# Altium footprint library BD00C0AWHFP-CTR.PcbLib: 3 footprints
Each footprint in its own frame and in the unit in brackets; x right, y up, seen from the top. Pads: shape width x height; smd on the part's side, far side on the other; paste and mask are expansions set on the pad; w line width, h text height; cw(c..) or ccw(c..) is an arc to the next point about the centre after c.
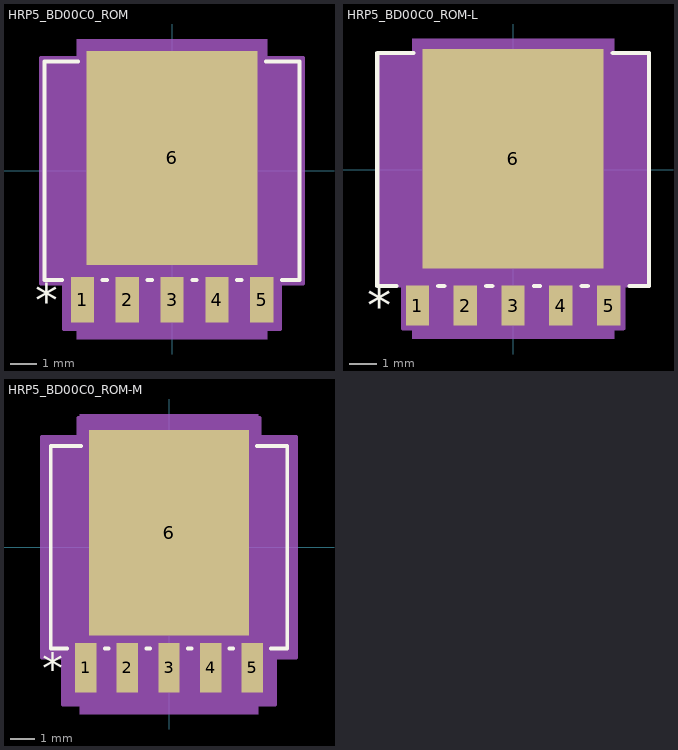
[diagram p0: the footprints below, top view; thin cyan lines are the x and y axes]

## HRP5_BD00C0_ROM [mil]
pads (6):
  rect 34.97x68.56 smd paste+0 mask+0: 1(-135.43,-194.5) 2(-67.72,-194.5) 3(0,-194.5) 4(67.72,-194.5) 5(135.43,-194.5)
  rect 258x323 smd paste+0 mask+0: 6(0,19.5)
Top Overlay:
  lines w6: -166.02,-165 -192.5,-165 -192.5,165 -142.1,165 ; -104.85,-165 -98.3,-165 ; -37.13,-165 -30.58,-165 ; 30.58,-165 37.13,-165 ; 98.3,-165 104.85,-165 ; 142.1,165 192.5,165 192.5,-165 166.02,-165
  text "*" at -206.79,-219.5 h50
Mechanical 5:
  region: -144,199 144,199 144,-253.78 -144,-253.78
Mechanical 13:
  lines w1: -187.5,-160 187.5,-160 187.5,160 -187.5,160 -187.5,-160 ; -151.93,-215 -151.93,-160 -118.93,-160 -118.93,-215 -151.93,-215 ; -84.22,-215 -84.22,-160 -51.22,-160 -51.22,-215 -84.22,-215 ; -16.5,-215 -16.5,-160 16.5,-160 16.5,-215 -16.5,-215 ; 51.22,-215 51.22,-160 84.22,-160 84.22,-215 51.22,-215 ; 118.93,-215 118.93,-160 151.93,-160 151.93,-215 118.93,-215
  text "*" at -147.93,-175 h50
Mechanical 15:
  region: -197.5,-170 -197.5,170 -138,170 -138,191 138,191 138,170 197.5,170 197.5,-170 162.92,-170 162.92,-238.78 -162.92,-238.78 -162.92,-170
  lines w6: -197.5,-170 -197.5,170 -138,170 -138,191 138,191 138,170 197.5,170 197.5,-170 162.92,-170 162.92,-238.78 -162.92,-238.78 -162.92,-170 -197.5,-170
3D body "HRP5_BD00C0_ROM.step": height 79.09, standoff -2.01, extent -187.48,-215 187.48,160

## HRP5_BD00C0_ROM-L [mil]
pads (6):
  rect 33x56.75 smd paste+0 mask+0: 1(-135.43,-192.53) 2(-67.72,-192.53) 3(0,-192.53) 4(67.72,-192.53) 5(135.43,-192.53)
  rect 256x311 smd paste+0 mask+0: 6(0,15.5)
Top Overlay:
  lines w6: -165.03,-165 -192.5,-165 -192.5,165 -141.1,165 ; -105.83,-165 -97.32,-165 ; -38.12,-165 -29.6,-165 ; 29.6,-165 38.12,-165 ; 97.32,-165 105.83,-165 ; 141.1,165 192.5,165 192.5,-165 165.03,-165
  text "*" at -206.79,-217.53 h50
Mechanical 5:
  region: -143,185 143,185 143,-239.91 -143,-239.91
Mechanical 13:
  lines w1: -187.5,-160 187.5,-160 187.5,160 -187.5,160 -187.5,-160 ; -151.93,-215 -151.93,-160 -118.93,-160 -118.93,-215 -151.93,-215 ; -84.22,-215 -84.22,-160 -51.22,-160 -51.22,-215 -84.22,-215 ; -16.5,-215 -16.5,-160 16.5,-160 16.5,-215 -16.5,-215 ; 51.22,-215 51.22,-160 84.22,-160 84.22,-215 51.22,-215 ; 118.93,-215 118.93,-160 151.93,-160 151.93,-215 118.93,-215
  text "*" at -147.93,-175 h50
Mechanical 15:
  region: -191.5,-164 -191.5,164 -132,164 -132,175 132,175 132,164 191.5,164 191.5,-164 155.93,-164 155.93,-224.91 -155.93,-224.91 -155.93,-164
  lines w6: -191.5,-164 -191.5,164 -132,164 -132,175 132,175 132,164 191.5,164 191.5,-164 155.93,-164 155.93,-224.91 -155.93,-224.91 -155.93,-164 -191.5,-164
3D body "HRP5_BD00C0_ROM.step": height 79.09, standoff -2.01, extent -187.48,-215 187.48,160

## HRP5_BD00C0_ROM-M [mm]
pads (6):
  rect 0.888x2.041 smd paste+0 mask+0: 1(-3.44,-4.99) 2(-1.72,-4.99) 3(0,-4.99) 4(1.72,-4.99) 5(3.44,-4.99)
  rect 6.604x8.509 smd paste+0 mask+0: 6(0,0.597)
Top Overlay:
  lines w0.152: -4.217,-4.191 -4.889,-4.191 -4.889,4.191 -3.635,4.191 ; -2.663,-4.191 -2.497,-4.191 ; -0.943,-4.191 -0.777,-4.191 ; 0.777,-4.191 0.943,-4.191 ; 2.497,-4.191 2.663,-4.191 ; 3.635,4.191 4.889,4.191 4.889,-4.191 4.217,-4.191
  text "*" at -5.253,-5.625 h1.27
Mechanical 5:
  region: -3.683,5.512 3.683,5.512 3.683,-6.9 -3.683,-6.9
Mechanical 13:
  lines w0.025: -4.763,-4.064 4.763,-4.064 4.763,4.064 -4.763,4.064 -4.763,-4.064 ; -3.859,-5.461 -3.859,-4.064 -3.021,-4.064 -3.021,-5.461 -3.859,-5.461 ; -2.139,-5.461 -2.139,-4.064 -1.301,-4.064 -1.301,-5.461 -2.139,-5.461 ; -0.419,-5.461 -0.419,-4.064 0.419,-4.064 0.419,-5.461 -0.419,-5.461 ; 1.301,-5.461 1.301,-4.064 2.139,-4.064 2.139,-5.461 1.301,-5.461 ; 3.021,-5.461 3.021,-4.064 3.859,-4.064 3.859,-5.461 3.021,-5.461
  text "*" at -3.758,-4.445 h1.27
Mechanical 15:
  region: -5.271,-4.572 -5.271,4.572 -3.759,4.572 -3.759,5.359 3.759,5.359 3.759,4.572 5.271,4.572 5.271,-4.572 4.392,-4.572 4.392,-6.519 -4.392,-6.519 -4.392,-4.572
  lines w0.152: -5.271,-4.572 -5.271,4.572 -3.759,4.572 -3.759,5.359 3.759,5.359 3.759,4.572 5.271,4.572 5.271,-4.572 4.392,-4.572 4.392,-6.519 -4.392,-6.519 -4.392,-4.572 -5.271,-4.572
3D body "HRP5_BD00C0_ROM.step": height 2.01, standoff -0.05, extent -4.762,-5.461 4.762,4.064